# Altium footprint library lm1875.PcbLib: 18 footprints (part 1 of 2)
Each footprint in its own frame and in the unit in brackets; x right, y up, seen from the top. Pads: shape width x height; smd on the part's side, far side on the other; paste and mask are expansions set on the pad; w line width, h text height; cw(c..) or ccw(c..) is an arc to the next point about the centre after c.
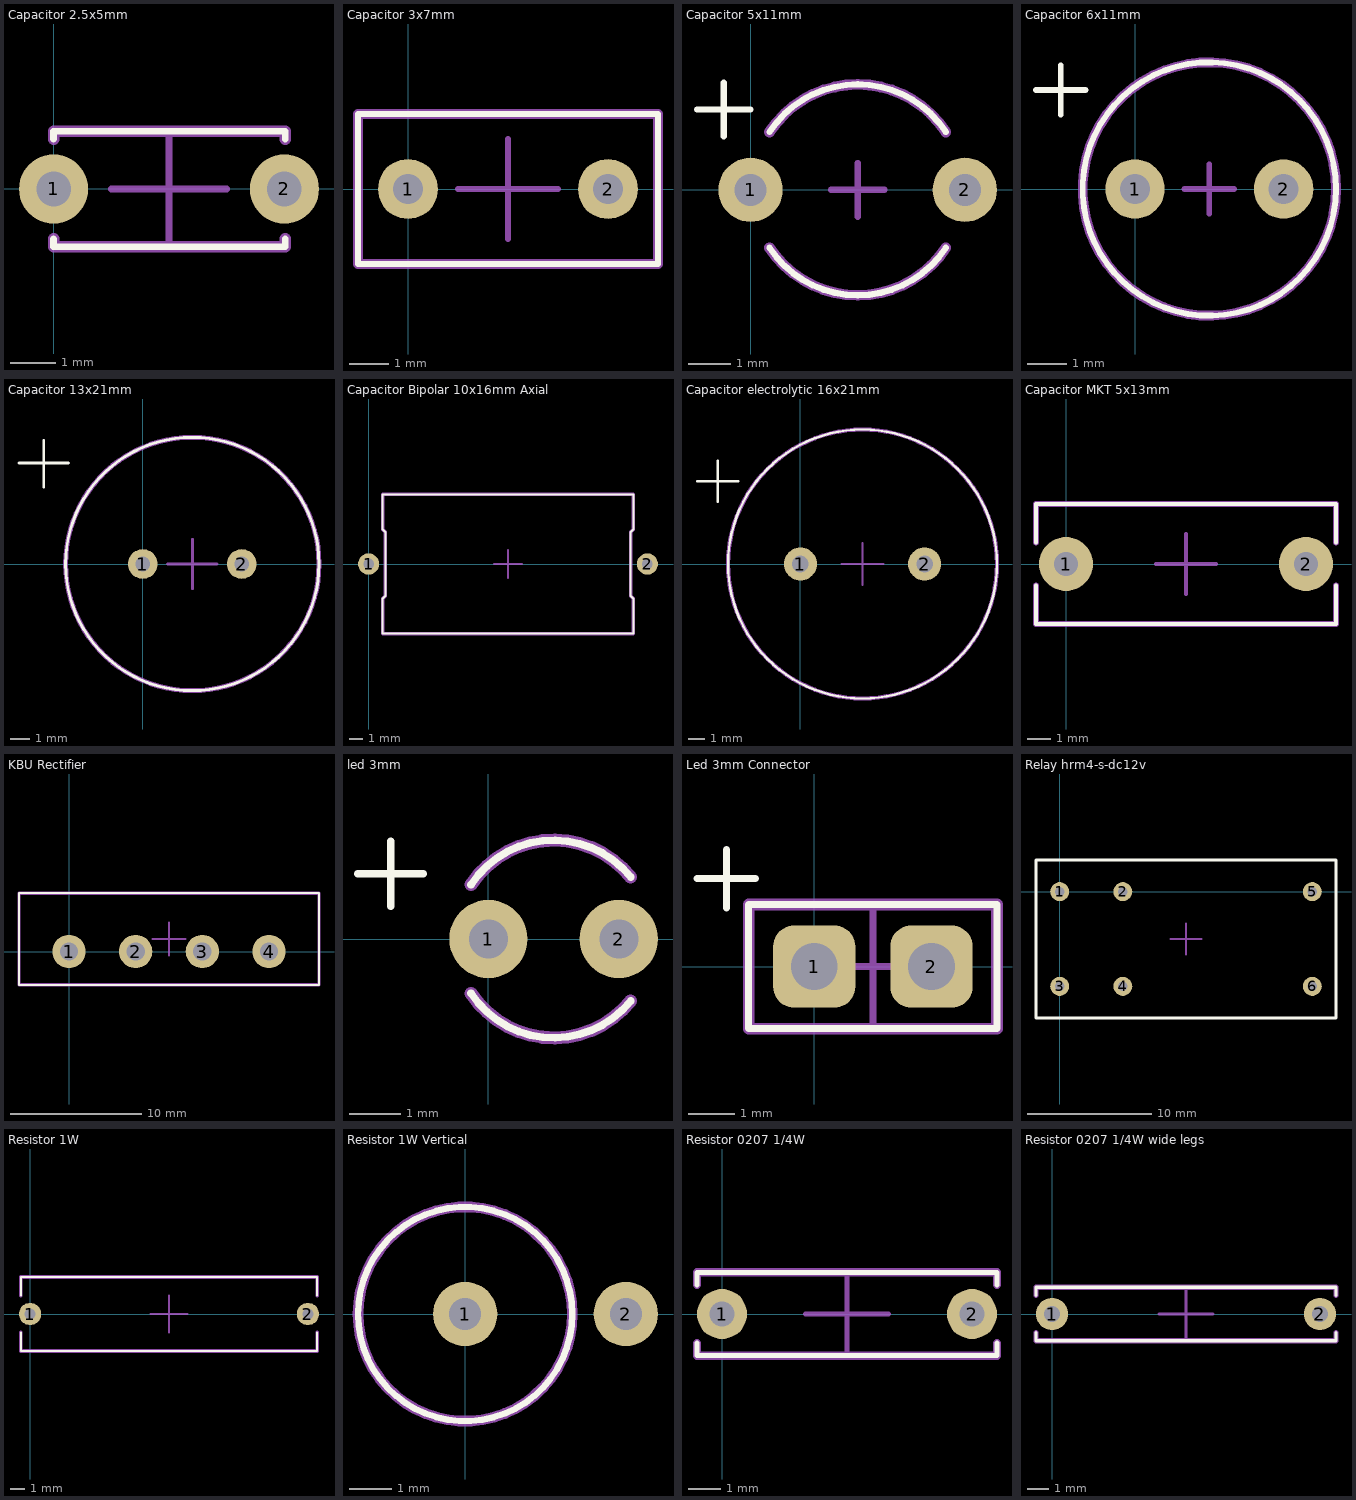
[diagram p0: the footprints below, top view; thin cyan lines are the x and y axes]

## Capacitor 2.5x5mm [mil]
pads (2):
  round 60 hole 30: 1(0,0) 2(200,0)
Top Overlay:
  lines w5.91: 0,-43.31 0,-50 200,-50 200.79,-50 200.79,-43.31 ; 0,43.31 0,50 200,50 200.79,50 200.79,43.31
Top Assembly:
  lines w5.91: 0,-43.31 0,-50 200,-50 200.79,-50 200.79,-43.31 ; 0,43.31 0,50 200,50 200.79,50 200.79,43.31
Top Courtyard:
  lines w10: 0,-43.31 0,-50 200,-50 200.79,-50 200.79,-43.31 ; 0,43.31 0,50 200,50 200.79,50 200.79,43.31
Top Component Center:
  lines w5.91: 50,0 150,0 ; 100,-50 100,50
3D body: height 50, standoff -100, extent -10,-10 10,10
3D body: height 50, standoff -100, extent 190,-10 210,10
3D body: height 200, standoff 0, extent 0,-50 200,50
3D body: height 0, standoff -100, extent -10,-10 10,10
3D body: height 0, standoff -100, extent 190,-10 210,10

## Capacitor 3x7mm [mil]
pads (2):
  round 60 hole 30: 1(0,0) 2(200,0)
Top Overlay:
  lines w5.91: -50,-75 -50,75 250,75 250,-75 -50,-75
Top Assembly:
  lines w5.91: -50,-75 -50,75 250,75 250,-75 -50,-75
Top Courtyard:
  lines w10: -50,-75 -50,75 250,75 250,-75 -50,-75
Top Component Center:
  lines w5.91: 50,0 150,0 ; 100,-50 100,50
3D body: height 0, standoff -100, extent -10,-10 10,10
3D body: height 0, standoff -100, extent 190,-10 210,10
3D body: height 200, standoff 0, extent -50,-75 250,75

## Capacitor 5x11mm [mil]
pads (2):
  round 60 hole 30: 1(0,0) 2(200,0)
Top Overlay:
  lines w5.91: -50,75 0,75 ; -25,50 -25,100 ; 17.74,-54.04 ccw(c100,0) 182.26,-54.04 ; 17.74,54.04 cw(c100,0) 182.26,54.04
Top Assembly:
  lines w5.91: 17.74,-54.04 ccw(c100,0) 182.26,-54.04 ; 17.74,54.04 cw(c100,0) 182.26,54.04
Top Courtyard:
  lines w10: 17.74,-54.04 ccw(c100,0) 182.26,-54.04 ; 17.74,54.04 cw(c100,0) 182.26,54.04
Top Component Center:
  lines w5.91: 75,0 125,0 ; 100,-25 100,25
3D body: height 118.11, standoff 78.74, extent 150.16,-10 169.84,9.69
3D body: height 88.09, standoff 32.41, extent 152.16,-10 207.84,9.69
3D body: height 39.37, standoff -78.74, extent 190.16,-9.84 209.84,9.84
3D body: height 118.11, standoff 78.74, extent 30,-9.84 49.69,9.84
3D body: height 88.09, standoff 32.41, extent -7.84,-10 47.84,9.69
3D body: height 39.37, standoff -78.74, extent -9.84,-9.84 9.84,9.84
3D body: height 533.07, standoff 100, extent 1.57,-98.43 198.43,98.43

## Capacitor 6x11mm [mil]
pads (2):
  round 60 hole 30: 1(0,0) 2(150,0)
Top Overlay:
  circle w5.91: c75,0 r127.95
  lines w5.91: -100,100 -50,100 ; -75,75 -75,125
Top Assembly:
  circle w5.91: c75,0 r127.95
Top Courtyard:
  circle w10: c75,0 r127.95
Top Component Center:
  lines w5.91: 50,0 100,0 ; 75,-25 75,25
3D body: height 531.5, standoff 98.43, extent -43.11,-118.11 193.11,118.11
3D body: height 0, standoff -118.11, extent -9.84,-9.84 9.84,9.84
3D body: height 0, standoff -118.11, extent 140.16,-9.84 159.84,9.84
3D body: height 111.2, standoff -4.16, extent -10.68,-10 57.08,9.69
3D body: height 111.2, standoff -4.16, extent 91.12,-9.69 158.88,10

## Capacitor 13x21mm [mil]
pads (2):
  round 60 hole 30: 1(0,0) 2(200,0)
Top Overlay:
  circle w5.91: c100,0 r255.91
  lines w5.91: -250,204.33 -150,204.33 ; -200,155.91 -200,250
Top Assembly:
  circle w5.91: c100,0 r255.91
Top Courtyard:
  circle w10: c100,0 r255.91
Top Component Center:
  lines w5.91: 50,0 150,0 ; 100,-50 100,50
3D body: height 826.77, standoff 0, extent -155.91,-255.91 355.91,255.91
3D body: height 0, standoff -100, extent 188.19,-11.81 211.81,11.81
3D body: height 0, standoff -100, extent -11.81,-11.81 11.81,11.81

## Capacitor Bipolar 10x16mm Axial [mil]
pads (2):
  round 60 hole 30: 1(0,0) 2(787.4,0)
Top Overlay:
  lines w5.91: 39.37,-196.85 748.03,-196.85 748.03,-98.43 740.16,-90.55 740.16,90.55 748.03,98.43 748.03,196.85 39.37,196.85 39.37,98.43 47.24,90.55 47.24,-90.55 39.37,-98.43 39.37,-196.85
Top Assembly:
  lines w5.91: 39.37,-196.85 748.03,-196.85 748.03,-98.43 740.16,-90.55 740.16,90.55 748.03,98.43 748.03,196.85 39.37,196.85 39.37,98.43 47.24,90.55 47.24,-90.55 39.37,-98.43 39.37,-196.85
Top Courtyard:
  lines w10: 39.37,-196.85 748.03,-196.85 748.03,-98.43 740.16,-90.55 740.16,90.55 748.03,98.43 748.03,196.85 39.37,196.85 39.37,98.43 47.24,90.55 47.24,-90.55 39.37,-98.43 39.37,-196.85
Top Component Center:
  lines w5.91: 354.33,0 433.07,0 ; 393.7,-39.37 393.7,39.37
3D body: height 208.66, standoff 185.04, extent 708.66,-11.81 787.4,11.81
3D body: height 208.66, standoff 185.04, extent 0,-11.81 78.74,11.81
3D body: height 196.85, standoff -55.12, extent 775.59,-11.81 799.21,11.81
3D body: height 393.7, standoff 0, extent 78.74,-196.85 708.66,196.85
3D body: height 196.85, standoff -55.12, extent -11.81,-11.81 11.81,11.81

## Capacitor electrolytic 16x21mm [mil]
pads (2):
  round 80 hole 40: 1(0,0) 2(300,0)
Top Overlay:
  circle w5.91: c150,0 r325
  lines w5.91: -250,200 -150,200 ; -200,150 -200,250
Top Assembly:
  circle w5.91: c150,0 r325
Top Courtyard:
  circle w10: c150,0 r325
Top Component Center:
  lines w5.91: 100,0 200,0 ; 150,-50 150,50
3D body: height 850, standoff 0, extent -175,-325 475,325
3D body: height 0, standoff -50, extent 280,-20 320,20
3D body: height 0, standoff -50, extent -20,-20 20,20

## Capacitor MKT 5x13mm [mil]
pads (2):
  round 90 hole 40: 1(0,0) 2(400,0)
Top Overlay:
  lines w5.91: -50,-35.43 -50,-100 450,-100 450,-35.43 ; -50,35.43 -50,100 450,100 450,35.43
Top Assembly:
  lines w5.91: -50,-35.43 -50,-100 450,-100 450,-35.43 ; -50,35.43 -50,100 450,100 450,35.43
Top Courtyard:
  lines w10: -50,-35.43 -50,-100 450,-100 450,-35.43 ; -50,35.43 -50,100 450,100 450,35.43
Top Component Center:
  lines w5.91: 150,0 250,0 ; 200,-50 200,50
3D body: height 100, standoff -100, extent -15,-15 15,15
3D body: height 100, standoff -100, extent 385,-15 415,15
3D body: height 450, standoff 0, extent -50,-100 450,100

## KBU Rectifier [mil]
pads (4):
  round 100 hole 55: 1(0,0) 2(200,0) 3(400,0) 4(600,0)
Top Overlay:
  lines w5.91: -150,-100 -150,175 750,175 750,-100 -150,-100
Top Assembly:
  lines w5.91: -150,-100 -150,175 750,175 750,-100 -150,-100
Top Courtyard:
  lines w10: -150,-100 -150,175 750,175 750,-100 -150,-100
Top Component Center:
  lines w5.91: 250,37.5 350,37.5 ; 300,-12.5 300,87.5
3D body: height 775, standoff 0, extent -150,-100 750,175
3D body: height 0, standoff -100, extent -25,-25 25,25
3D body: height 0, standoff -100, extent 175,-25 225,25
3D body: height 0, standoff -100, extent 375,-25 425,25
3D body: height 0, standoff -100, extent 575,-25 625,25

## led 3mm [mil]
pads (2):
  round 60 hole 30: 1(0,0) 2(100,0)
Top Overlay:
  lines w5.91: -100,50 -50,50 ; -75,25 -75,75 ; -13.34,-41.61 ccw(c50,0) 109.05,-47.5 ; -13.34,41.61 cw(c50,0) 109.06,47.5
Top Assembly:
  lines w5.91: -13.34,-41.61 ccw(c50,0) 109.05,-47.5 ; -13.34,41.61 cw(c50,0) 109.06,47.5
Top Courtyard:
  lines w10: -13.34,-41.61 ccw(c50,0) 109.05,-47.5 ; -13.34,41.61 cw(c50,0) 109.06,47.5
3D body: height 0, standoff -100, extent -10,-10 10,10
3D body: height 0, standoff -100, extent 90,-10 110,10
3D body: height 39.37, standoff 0, extent -25.79,-75.79 125.79,75.79
3D body: height 209.45, standoff 91.34, extent -9.06,-59.06 109.06,59.06
3D body: height 150.39, standoff 0, extent -9.06,-59.06 109.06,59.06

## Led 3mm Connector [mil]
pads (2):
  rrect50% 70x70 hole 40: 1(0,0) 2(100,0)
Top Overlay:
  lines w5.91: -100,75 -50,75 ; -75,50 -75,100 ; -55.91,-52.95 -55.91,52.95 155.91,52.95 155.91,-52.95 -55.91,-52.95
Top Assembly:
  lines w5.91: -55.91,-52.95 -55.91,52.95 155.91,52.95 155.91,-52.95 -55.91,-52.95
Top Courtyard:
  lines w10: -55.91,-52.95 -55.91,52.95 155.91,52.95 155.91,-52.95 -55.91,-52.95
Top Component Center:
  lines w5.91: 0,0 100,0 ; 50,-50 50,50
3D body "61300211121.stp": height 337.4, standoff -116.93, extent -49.99,-49.99 150.01,50.01

## Relay hrm4-s-dc12v [mil]
pads (6):
  round 60 hole 30: 1(0,0) 2(200,0) 3(0,-300) 4(200,-300) 5(800,0) 6(800,-300)
Top Overlay:
  lines w10: -75,-400 875,-400 875,100 -75,100 -75,-400
Top Assembly:
  lines w5.91: -75,-400 875,-400 875,100 -75,100 -75,-400
Top Courtyard:
  lines w5.91: -75,-400 875,-400 875,100 -75,100 -75,-400
Top Component Center:
  lines w5.91: 350,-150 450,-150 ; 400,-200 400,-100
3D body: height 975, standoff 0, extent -75,-400 875,100
3D body: height 0, standoff -118.11, extent 790.16,-9.84 809.84,9.84
3D body: height 0, standoff -118.11, extent 790.16,-309.84 809.84,-290.16
3D body: height 0, standoff -118.11, extent -13.78,-13.78 13.78,13.78
3D body: height 0, standoff -118.11, extent 186.22,-13.78 213.78,13.78
3D body: height 0, standoff -118.11, extent 186.22,-313.78 213.78,-286.22
3D body: height 0, standoff -118.11, extent -13.78,-313.78 13.78,-286.22

## Resistor 1W [mil]
pads (2):
  round 60 hole 30: 1(0,0) 2(750,0)
Top Overlay:
  lines w5.91: -25,-50 -25,-100 775,-100 775,-50 ; -25,50 -25,100 775,100 775,50
Top Assembly:
  lines w5.91: -25,-50 -25,-100 775,-100 775,-50 ; -25,50 -25,100 775,100 775,50
Top Courtyard:
  lines w10: -25,-50 -25,-100 775,-100 775,-50 ; -25,50 -25,100 775,100 775,50
Top Component Center:
  lines w5.91: 325,0 425,0 ; 375,-50 375,50
3D body: height 187.5, standoff 12.5, extent 70.83,-87.5 679.17,87.5
3D body: height 109.84, standoff 90.16, extent 0,-9.84 75,9.84
3D body: height 109.84, standoff 90.16, extent 675,-9.84 750,9.84
3D body: height 100, standoff -100, extent 740.16,-9.84 759.84,9.84
3D body: height 100, standoff -100, extent -9.84,-9.84 9.84,9.84
3D body: height 200, standoff 0, extent 580,-100 680,100
3D body: height 200, standoff 0, extent 70,-100 170,100

## Resistor 1W Vertical [mil]
pads (2):
  round 60 hole 30: 1(0,0) 2(150,0)
Top Overlay:
  circle w5.91: c0,0 r100
Top Assembly:
  circle w5.91: c0,0 r100
Top Courtyard:
  circle w10: c0,0 r100
3D body: height 718.35, standoff 698.35, extent 0,-10 150,10
3D body: height 708.35, standoff -100, extent -10,-10 10,10
3D body: height 708.35, standoff -100, extent 140,-10 160,10
3D body: height 608.35, standoff 508.35, extent -100,-100 100,100
3D body: height 100, standoff 0, extent -100,-100 100,100
3D body: height 608.35, standoff 0, extent -87.48,-87.48 87.48,87.48

## Resistor 0207 1/4W [mil]
pads (2):
  round 60 hole 30: 1(0,0) 2(300,0)
Top Overlay:
  lines w5.91: -30,-35 -30,-50 330,-50 330,-35 ; -30,35 -30,50 330,50 330,35
Top Assembly:
  lines w5.91: -30,-35 -30,-50 330,-50 330,-35 ; -30,35 -30,50 330,50 330,35
Top Courtyard:
  lines w10: -30,-35 -30,-50 330,-50 330,-35 ; -30,35 -30,50 330,50 330,35
Top Component Center:
  lines w5.91: 100,0 200,0 ; 150,-50 150,50
3D body: height 50, standoff -50, extent 290,-10 310,10
3D body: height 50, standoff -50, extent -10,-10 10,10
3D body: height 60, standoff 40, extent 275,-10 300,10
3D body: height 60, standoff 40, extent 0,-10 25,10
3D body: height 100, standoff 0, extent 25,-50 275,50

## Resistor 0207 1/4W wide legs [mil]
pads (2):
  round 60 hole 30: 1(0,0) 2(500,0)
Top Overlay:
  lines w5.91: -30,-35 -30,-50 530,-50 530,-35 ; -30,35 -30,50 530,50 530,35
Top Assembly:
  lines w5.91: -30,-35 -30,-50 530,-50 530,-35 ; -30,35 -30,50 530,50 530,35
Top Courtyard:
  lines w10: -30,-35 -30,-50 530,-50 530,-35 ; -30,35 -30,50 530,50 530,35
Top Component Center:
  lines w5.91: 200,0 300,0 ; 250,-50 250,50
3D body: height 200, standoff 100, extent 125,-50 375,50
3D body: height 150, standoff -50, extent 490,-10 510,10
3D body: height 150, standoff -50, extent -10,-10 10,10
3D body: height 160, standoff 140, extent 375,-10 500,10
3D body: height 160, standoff 140, extent 0,-10 125,10